# Altium footprint library TSSH-105-01-x-DV.PcbLib: 1 footprints
Each footprint in its own frame and in the unit in brackets; x right, y up, seen from the top. Pads: shape width x height; smd on the part's side, far side on the other; paste and mask are expansions set on the pad; w line width, h text height; cw(c..) or ccw(c..) is an arc to the next point about the centre after c.
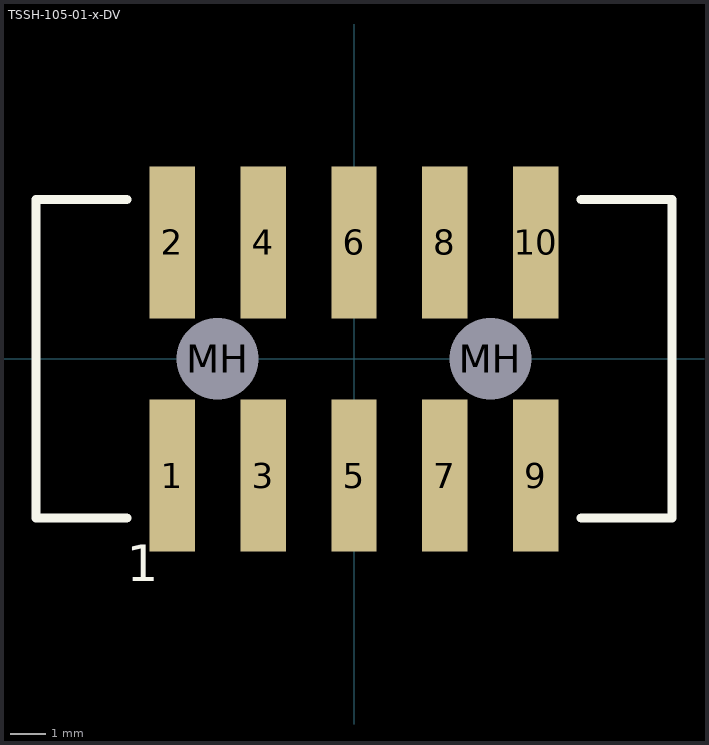
[diagram p0: the footprint, top view; thin cyan lines are the x and y axes]

## TSSH-105-01-x-DV [mil]
pads (12):
  rect 50x167 smd: 1(-200,-128.5) 2(-200,128) 3(-100,-128.5) 4(-100,128) 5(0,-128.5) 6(0,128) 7(100,-128.5) 8(100,128) 9(200,-128.5) 10(200,128)
  round 70 hole 90 unplated: MH(-150,0) MH(150,0)
Top Overlay:
  lines w10: -250,-175 -350,-175 -350,175 -250,175 ; 250,-175 350,-175 350,175 250,175
  text "1" at -250,-245 h40
3D body: height 425.6, standoff -49.4, extent -350,-188 350,187